# Altium integrated library AUVic_Integrated_Library_Gate_Drivers.IntLib: 1 symbol
Pins are listed as number, name and electrical type; pins without a type are passive.

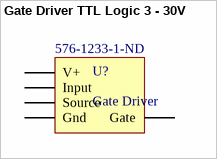
[diagram p0: symbol Gate Driver TTL Logic 3 - 30V]

## Gate Driver TTL Logic 3 - 30V
designator U?, comment Gate Driver  Supplier Part Number 1: 576-1233-1-ND
Supplier 1: Digi-Key
footprint SOC 8
pins: 1 V+, 2 Input, 3 Source, 4 Gnd, 5 Gate